# Altium footprint library PcbLib1.PcbLib: 36 footprints (part 3 of 3)
Each footprint in its own frame and in the unit in brackets; x right, y up, seen from the top. Pads: shape width x height; smd on the part's side, far side on the other; paste and mask are expansions set on the pad; w line width, h text height; cw(c..) or ccw(c..) is an arc to the next point about the centre after c.
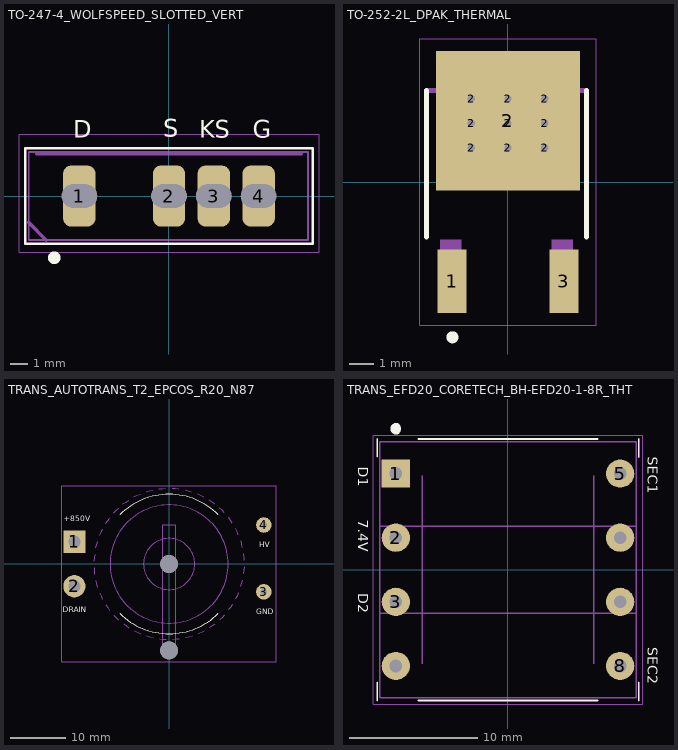
[diagram p2: the footprints below, top view; thin cyan lines are the x and y axes]

## TO-247-4_WOLFSPEED_SLOTTED_VERT [mm] "TO-247 4-Lead Package, Pitch 5.08-2.54-2.54mm, Plated Slots (1.33x2.01mm), Dedicated Kelvin Source, Wolfspeed C3M0075120K / C3M Series"
pads (4):
  rrect50% 1.84x3.46 hole 1.33 slot 2.01 at 0 deg mask+0.05: 1(-5.08,0) 2(0,0) 3(2.54,0) 4(5.08,0)
Top Overlay:
  circle w0.6: c-6.5,-3.5 r0.056
  lines w0.15: -8.15,-2.7 8.15,-2.7 8.15,2.7 -8.15,2.7 -8.15,-2.7
  text ".Designator" at -4.998,-4.783 h1
  text "G" at 4.742,3.3 h1
  text "KS" at 1.717,3.3 h1
  text "S" at -0.333,3.35 h1
  text "D" at -5.433,3.3 h1
Top Assembly:
  lines w0.1: -7.95,-2.5 7.873,-2.5 7.873,2.5 -7.95,2.5 -7.95,-2.5
  lines w0.2: -7.95,-1.5 -6.95,-2.5 ; -7.5,2.4 7.5,2.4
  text ".Designator" at -4.998,-0.333 h1
Top Courtyard (Mech15):
  lines w0.05: -8.5,-3.2 8.5,-3.2 8.5,3.5 -8.5,3.5 -8.5,-3.2
3D body "C3M0075120K1--3DModel-STEP-740395.STEP": height 22.61, standoff -18.85, extent -7.97,-2.51 7.97,2.51

## TO-252-2L_DPAK_THERMAL [mm] "TO-252-2L (DPAK), 2.28mm Pitch, Tab Drain with 3x3 Thermal Vias Array (0.6/0.3mm), Alpha & Omega AOD4185"
height 2.38
pads (12):
  rect 1.2x2.6 smd mask+0.05: 1(-2.29,-4.05) 3(2.29,-4.05)
  round 0.6 hole 0.3 unplated mask+0.05: 2(-1.5,1.4) 2(-1.5,2.4) 2(-1.5,3.4) 2(0,1.4) 2(0,2.4) 2(0,3.4) 2(1.5,1.4) 2(1.5,2.4) 2(1.5,3.4)
  rect 5.9x5.7 smd mask+0.05: 2(0,2.5)
Top Overlay:
  circle w0.35: c-2.275,-6.35 r0.071
  lines w0.203: -3.34,-2.255 -3.34,3.739 ; 3.214,3.739 3.214,-2.255
Bottom Overlay:
  text ".Designator" at -4.85,6.608 h1
Mechanical 13:
  region: 2.502,4.552 2.502,3.841 -2.628,3.841 -2.628,4.552 -2.171,5.009 2.045,5.009
  region: 2.655,-5.252 1.791,-5.252 1.791,-2.357 2.655,-2.357
  region: -1.917,-5.252 -2.781,-5.252 -2.781,-2.357 -1.917,-2.357
  lines w0.203: -3.34,3.739 3.214,3.739 ; -2.628,3.841 2.502,3.841 2.502,4.552 2.045,5.009 -2.171,5.009 -2.628,4.552 -2.628,3.841
Top Courtyard (Mech15):
  lines w0.05: -3.6,-5.85 3.6,-5.85 3.6,5.85 -3.6,5.85 -3.6,-5.85
3D body "AOD4185.STEP": height 2.4, standoff -0.2, extent -3.302,-5.016 3.302,5.016

## TRANS_AUTOTRANS_T2_EPCOS_R20_N87 [mm] "Pulse Transformer T2, Epcos B64290L0632X087 (R20x10x7 N87 Toroid), Pri Braid 3mm (Pad D4.0/H2.2), Sec UL3239 28AWG, 2x Zip-Tie NPTH D3.2mm"
pads (6):
  rect 4x4 hole 2.2 mask+0.05: 1(-17,4)
  round 4 hole 2.2 mask+0.05: 2(-17,-4)
  round 2.8 hole 1.2 mask+0.05: 3(17,-5) 4(17,7)
  round 3.2 hole 3.2 unplated mask+0.05: ""(0,-15.5) ""(0,0)
Top Overlay:
  lines w0.15: -8.846,-8.857 ccw(c-0.007,-0.018) 8.832,-8.857 ; -8.839,8.839 cw(c0,0) 8.839,8.839
  text "+850V" at -18.933,7.7 h1
  text "DRAIN" at -19.049,-8.7 h1
  text "GND" at 15.667,-9 h1
  text "HV" at 16.167,3 h1
Top Assembly:
  circle w0.1: c0,0 r10.6
  circle w0.1: c0,0 r4.6
  lines w0.1: -13.536,0.53 cw(c-0.087,-0.646) -13.382,1.698 ; -13.474,-0.652 ccw(c0.026,-0.652) -13.422,-1.828 ; -13.238,2.873 cw(c-0.198,-0.621) -12.884,3.996 ; -13.156,-2.981 ccw(c0.139,-0.637) -12.901,-4.131 ; -12.538,5.128 cw(c-0.303,-0.577) -11.994,6.173 ; -12.438,-5.221 ccw(c0.248,-0.603) -11.988,-6.309 ; -11.457,7.227 cw(c-0.399,-0.516) -10.74,8.162 ; -11.343,-7.301 ccw(c0.349,-0.551) -10.71,-8.294 ; -10.028,9.107 cw(c-0.482,-0.439) -9.16,9.903 ; -9.903,-9.16 ccw(c0.439,-0.482) -9.107,-10.028 ; -8.294,10.71 cw(c-0.551,-0.349) -7.301,11.343 ; -8.162,-10.74 ccw(c0.516,-0.399) -7.227,-11.457 ; -6.309,11.988 cw(c-0.603,-0.248) -5.221,12.438 ; -6.173,-11.994 ccw(c0.577,-0.303) -5.128,-12.538 ; -4.131,12.901 cw(c-0.637,-0.139) -2.981,13.156 ; -3.996,-12.884 ccw(c0.621,-0.198) -2.873,-13.238 ; -1.828,13.422 cw(c-0.652,-0.026) -0.652,13.474 ; -1.698,-13.382 ccw(c0.646,-0.087) -0.53,-13.536 ; -0.15,1.131 cw(c-13.445,-1.213) 0.055,-1.213 ; 0.53,13.536 cw(c-0.646,0.087) 1.698,13.382 ; 0.652,-13.474 ccw(c0.652,0.026) 1.828,-13.422 ; 2.873,13.238 cw(c-0.621,0.198) 3.996,12.884 ; 2.981,-13.156 ccw(c0.637,0.139) 4.131,-12.901 ; 5.128,12.538 cw(c-0.577,0.303) 6.173,11.994 ; 5.221,-12.438 ccw(c0.603,0.248) 6.309,-11.988 ; 7.227,11.457 cw(c-0.516,0.399) 8.162,10.74 ; 7.301,-11.343 ccw(c0.551,0.349) 8.294,-10.71 ; 9.107,10.028 cw(c-0.439,0.482) 9.903,9.16 ; 9.16,-9.903 ccw(c0.482,0.439) 10.028,-9.107 ; 10.71,8.294 cw(c-0.349,0.551) 11.343,7.301 ; 10.74,-8.162 ccw(c0.399,0.516) 11.457,-7.227 ; 11.988,6.309 cw(c-0.248,0.603) 12.438,5.221 ; 11.994,-6.173 ccw(c0.303,0.577) 12.538,-5.128 ; 12.884,-3.996 ccw(c0.198,0.621) 13.238,-2.873 ; 12.901,4.131 cw(c-0.139,0.637) 13.156,2.981 ; 13.382,-1.698 ccw(c0.087,0.646) 13.536,-0.53 ; 13.422,1.828 cw(c-0.026,0.652) 13.474,0.652 ; -1.175,-0.1 ccw(c-1.175,13.4) 1.169,0.105 cw(c-1.175,13.4) -1.175,-0.1 ; -1.175,0.106 ccw(c1.17,13.4) 1.17,-0.1 cw(c1.17,13.4) -1.175,0.106 ; -1.169,-0.105 cw(c1.175,-13.4) 1.175,0.1 ccw(c1.175,-13.4) -1.169,-0.105 ; -1.17,0.1 cw(c-1.17,-13.4) 1.175,-0.106 ccw(c-1.17,-13.4) -1.17,0.1 ; -1.158,-15.5 1.188,-15.5 1.188,7 -1.158,7 -1.158,-15.5 ; -1.14,-0.303 ccw(c-3.484,12.992) 1.133,0.307 cw(c-3.484,12.992) -1.14,-0.303 ; -1.138,0.308 ccw(c3.479,12.994) 1.135,-0.301 cw(c3.479,12.994) -1.138,0.308 ; -1.135,0.301 cw(c-3.479,-12.994) 1.138,-0.308 ccw(c-3.479,-12.994) -1.135,0.301 ; -1.133,-0.307 cw(c3.484,-12.992) 1.14,0.303 ccw(c3.484,-12.992) -1.133,-0.307 ; -1.07,-0.496 ccw(c-5.687,12.19) 1.063,0.499 cw(c-5.687,12.19) -1.07,-0.496 ; -1.068,0.501 ccw(c5.682,12.192) 1.065,-0.494 cw(c5.682,12.192) -1.068,0.501 ; -1.065,0.494 cw(c-5.682,-12.192) 1.068,-0.501 ccw(c-5.682,-12.192) -1.065,0.494 ; -1.063,-0.499 cw(c5.687,-12.19) 1.07,0.496 ccw(c5.687,-12.19) -1.063,-0.499 ; -0.968,-0.674 ccw(c-7.718,11.017) 0.96,0.676 cw(c-7.718,11.017) -0.968,-0.674 ; -0.964,0.679 ccw(c7.713,11.02) 0.963,-0.671 cw(c7.713,11.02) -0.964,0.679 ; -0.963,0.671 cw(c-7.713,-11.02) 0.964,-0.679 ccw(c-7.713,-11.02) -0.963,0.671 ; -0.96,-0.676 cw(c7.718,-11.017) 0.968,0.674 ccw(c7.718,-11.017) -0.96,-0.676 ; -0.836,-0.832 ccw(c-9.513,9.51) 0.828,0.832 cw(c-9.513,9.51) -0.836,-0.832 ; -0.832,0.828 cw(c-9.51,-9.513) 0.832,-0.836 ccw(c-9.51,-9.513) -0.832,0.828 ; -0.832,0.836 ccw(c9.51,9.513) 0.832,-0.828 cw(c9.51,9.513) -0.832,0.836 ; -0.828,-0.832 cw(c9.513,-9.51) 0.836,0.832 ccw(c9.513,-9.51) -0.828,-0.832 ; -0.679,-0.964 ccw(c-11.02,7.713) 0.671,0.963 cw(c-11.02,7.713) -0.679,-0.964 ; -0.676,0.96 cw(c-11.017,-7.718) 0.674,-0.968 ccw(c-11.017,-7.718) -0.676,0.96 ; -0.674,0.968 ccw(c11.017,7.718) 0.676,-0.96 cw(c11.017,7.718) -0.674,0.968 ; -0.671,-0.963 cw(c11.02,-7.713) 0.679,0.964 ccw(c11.02,-7.713) -0.671,-0.963 ; -0.501,-1.068 ccw(c-12.192,5.682) 0.494,1.065 cw(c-12.192,5.682) -0.501,-1.068 ; -0.499,1.063 cw(c-12.19,-5.687) 0.496,-1.07 ccw(c-12.19,-5.687) -0.499,1.063 ; -0.496,1.07 ccw(c12.19,5.687) 0.499,-1.063 cw(c12.19,5.687) -0.496,1.07 ; -0.494,-1.065 cw(c12.192,-5.682) 0.501,1.068 ccw(c12.192,-5.682) -0.494,-1.065 ; -0.308,-1.138 ccw(c-12.994,3.479) 0.301,1.135 cw(c-12.994,3.479) -0.308,-1.138 ; -0.307,1.133 cw(c-12.992,-3.484) 0.303,-1.14 ccw(c-12.992,-3.484) -0.307,1.133 ; -0.303,1.14 ccw(c12.992,3.484) 0.307,-1.133 cw(c12.992,3.484) -0.303,1.14 ; -0.301,-1.135 cw(c12.994,-3.479) 0.308,1.138 ccw(c12.994,-3.479) -0.301,-1.135 ; -0.106,-1.175 ccw(c-13.4,1.17) 0.1,1.17 cw(c-13.4,1.17) -0.106,-1.175 ; -0.105,1.169 cw(c-13.4,-1.175) 0.1,-1.175 ccw(c-13.4,-1.175) -0.105,1.169 ; -0.1,1.175 ccw(c13.4,1.175) 0.105,-1.169 cw(c13.4,1.175) -0.1,1.175 ; -0.1,-1.17 cw(c13.4,-1.17) 0.106,1.175 ccw(c13.4,-1.17) -0.1,-1.17
Top Courtyard (Mech15):
  lines w0.1: -19.25,-17.525 19.25,-17.525 19.25,14 -19.25,14 -19.25,-17.525
3D body "c61020-a0020-c014-r20-10-7.step": height 5.5, standoff -1.5, extent -10,-10 10,10

## TRANS_EFD20_CORETECH_BH-EFD20-1-8R_THT [mm] "Transformer Bobbin EFD20/10/7, CoreTech BH-EFD20-1-8R (PHL), 8-Pin THT, Row Pitch 17.5mm, Pin Pitch 5.0mm, Dedicated 15mm HV Secondary Spacing (Pins 8-5)"
pads (8):
  rect 2.2x2.2 hole 1 mask+0.05: 1(-8.75,7.5)
  round 2.2 hole 1 mask+0.05: 2(-8.75,2.5) 3(-8.75,-2.5) 5(8.75,7.5) 8(8.75,-7.5) ""(-8.75,-7.5) ""(8.75,-2.5) ""(8.75,2.5)
Top Overlay:
  circle w0.05: c-8.75,11 r0.4
  region: -8.75,10.6 -8.83,10.6 -8.977,10.661 -9.089,10.773 -9.15,10.92 -9.15,11 -9.15,11.08 -9.089,11.227 -8.977,11.339 -8.83,11.4 -8.75,11.4 -8.67,11.4 -8.523,11.339 -8.411,11.227 -8.35,11.08 -8.35,11 -8.35,10.92 -8.411,10.773 -8.523,10.661 -8.67,10.6
  lines w0.15: -10.2,-10.2 -10.2,-8.8 ; -10.2,8.825 -10.2,10.2 ; -7,-10.2 7,-10.2 ; -7,10.2 7,10.2 ; 10.2,-10.2 10.2,-8.8 ; 10.2,8.8 10.2,10.2
  text "D1" at -11.7,8.033 h0.8
  text "7.4V" at -11.7,3.9 h0.8
  text "D2" at -11.7,-1.834 h0.8
  text "SEC1" at 10.9,8.833 h0.8
  text "SEC2" at 10.9,-6.034 h0.8
Top Assembly:
  lines w0.1: -6.7,-7.35 -6.7,7.35 ; 6.7,-7.35 6.7,7.35 ; -10,-10 10,-10 10,10 -10,10 -10,-10 ; -10,-3.4 10,-3.4 10,3.4 -10,3.4 -10,-3.4
  text ".Designator" at -3.999,4.233 h0.8
Top Courtyard (Mech15):
  lines w0.05: -10.5,-10.5 10.5,-10.5 10.5,10.5 -10.5,10.5 -10.5,-10.5
3D body "EFD20.STEP": height 9.9, standoff -4, extent -10.085,-10.019 9.925,9.981